# EAGLE library part DOGM162X (library DMF_Displays)
DOGM Character Display http://www.lcd-module.com/products/dog.html
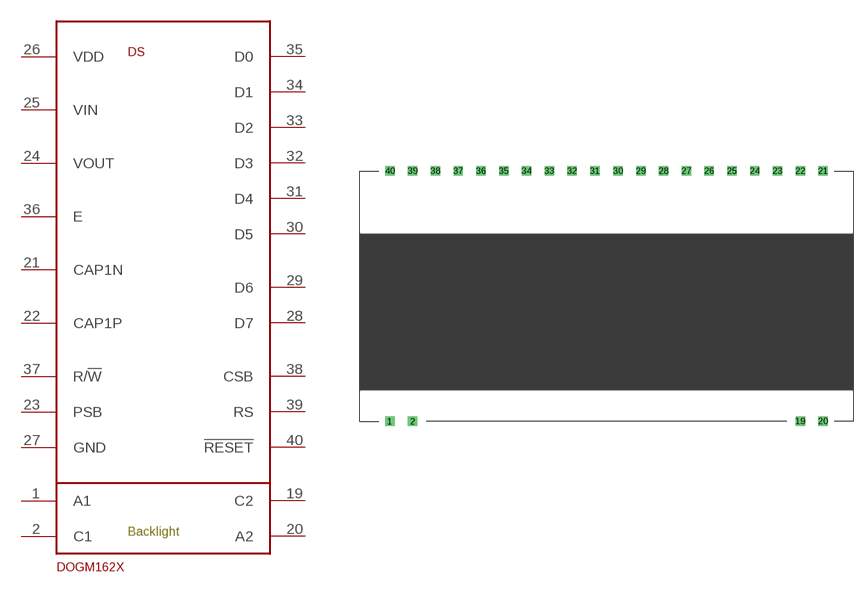
[diagram p0: symbol with the pads of DOGM162X; footprint DOGM162X]

Designator prefix DS

## DOGM162X  [DOGM162X]
1  A1
2  C1
19  C2
20  A2
21  CAP1N
22  CAP1P
23  PSB
24  VOUT
25  VIN
26  VDD
27  GND
28  D7
29  D6
30  D5
31  D4
32  D3
33  D2
34  D1
35  D0
36  E
37  R/!W
38  CSB
39  RS
40  !RESET

## Footprint DOGM162X (pad centres in mm)
drill 0.55 square: 1 -24.155,-13.97; 2 -21.615,-13.97; 19 21.615,-13.97; 20 24.155,-13.97; 21 24.155,13.97; 22 21.615,13.97; 23 19.075,13.97; 24 16.535,13.97; 25 13.995,13.97; 26 11.455,13.97; 27 8.915,13.97; 28 6.375,13.97; 29 3.835,13.97; 30 1.295,13.97; 31 -1.295,13.97; 32 -3.835,13.97; 33 -6.375,13.97; 34 -8.915,13.97; 35 -11.455,13.97; 36 -13.995,13.97; 37 -16.535,13.97; 38 -19.075,13.97; 39 -21.615,13.97; 40 -24.155,13.97